# Altium schematic symbol library LED.SCHLIB: 25 symbols
Pins are listed as number, name and electrical type; pins without a type are passive.

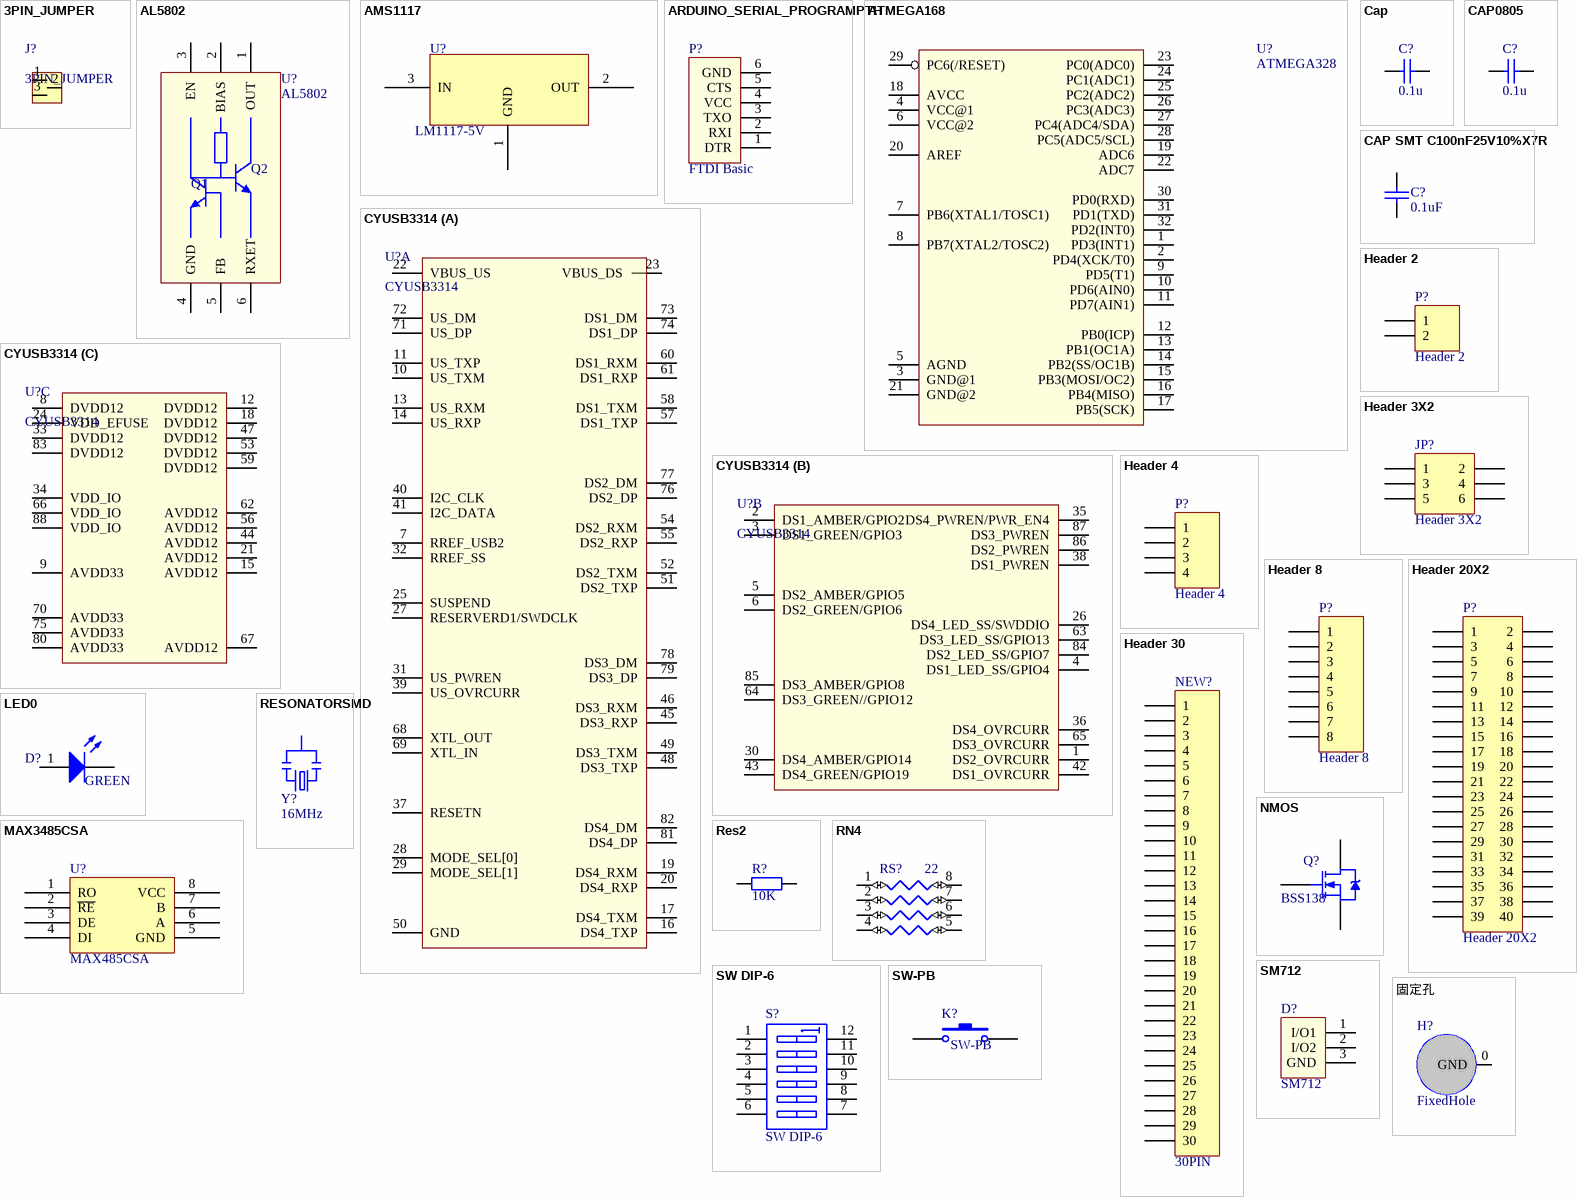
[diagram p0: symbols 3PIN_JUMPER to 固定孔]

## 3PIN_JUMPER
designator J?
pins: 1, 2, 3

## AL5802
designator U?
footprint SOT23-6
footprint SOT26
pins: 1 OUT, 2 BIAS, 3 EN, 4 GND, 5 FB, 6 RXET
text: Q2; Q1

## AMS1117
designator U?, comment LM1117-5V
footprint SOT-223
pins: 1 GND, 2 OUT, 3 IN

## ARDUINO_SERIAL_PROGRAMPTH
designator P?, comment FTDI Basic
footprint 1X06
footprint MHDR1X6 (Connector; Header; 6 Position)
pins: 1 DTR, 2 RXI, 3 TXO, 4 VCC, 5 CTS, 6 GND

## ATMEGA168
designator U?, comment ATMEGA328
footprint TQFP32-08
footprint TQFP32-08
footprint TQFP32-08
pins: 1 PD3(INT1), 2 PD4(XCK/T0), 3 GND@1, 4 VCC@1, 5 AGND, 6 VCC@2, 7 PB6(XTAL1/TOSC1), 8 PB7(XTAL2/TOSC2), 9 PD5(T1), 10 PD6(AIN0), 11 PD7(AIN1), 12 PB0(ICP), 13 PB1(OC1A), 14 PB2(SS/OC1B), 15 PB3(MOSI/OC2), 16 PB4(MISO), 17 PB5(SCK), 18 AVCC, 19 ADC6, 20 AREF, 21 GND@2, 22 ADC7, 23 PC0(ADC0), 24 PC1(ADC1), 25 PC2(ADC2), 26 PC3(ADC3), 27 PC4(ADC4/SDA), 28 PC5(ADC5/SCL), 29 PC6(/RESET), 30 PD0(RXD), 31 PD1(TXD), 32 PD2(INT0)

## Cap
designator C?, comment 0.1u
Capacitor; Value: 100pF; Published: 8-Jun-2000; LatestRevisionDate: 17-Jul-2002; LatestRevisionNote: Re-released for DXP Platform.; PackageReference: RAD-0.3; Publisher: Altium Limited
footprint C0402
footprint C0603
pins: 1, 2

## CAP0805
designator C?, comment 0.1u
Capacitor; Value: 104; Published: 8-Jun-2000; Revision: July-2002: Re-released for DXP Platform.; Publisher: Altium Limited
simulation model CAP (Capacitor)
signal-integrity model Cap
footprint C0603
footprint 0603S-CAP
footprint C0603
pins: 1, 2

## CAP SMT C100nF25V10%X7R
designator C?, comment 0.1uF
Capacitor; iPartNumber: C100nF25V10%X7R; Voltage: 25V; Value: 0.1uF
footprint C0603
footprint C0603T
footprint 0603T_NO_SILK
footprint C0603
pins: 1, 2

## CYUSB3314
designator U?
part A pins: 7 RREF_USB2, 10 US_TXM, 11 US_TXP, 13 US_RXM, 14 US_RXP, 16 DS4_TXP, 17 DS4_TXM, 19 DS4_RXM, 20 DS4_RXP, 22 VBUS_US, 23 VBUS_DS, 25 SUSPEND, 27 RESERVERD1/SWDCLK, 28 MODE_SEL[0], 29 MODE_SEL[1], 31 US_PWREN, 32 RREF_SS, 37 RESETN, 39 US_OVRCURR, 40 I2C_CLK, 41 I2C_DATA, 45 DS3_RXP, 46 DS3_RXM, 48 DS3_TXP, 49 DS3_TXM, 50 GND, 51 DS2_TXP, 52 DS2_TXM, 54 DS2_RXM, 55 DS2_RXP, 57 DS1_TXP, 58 DS1_TXM, 60 DS1_RXM, 61 DS1_RXP, 68 XTL_OUT, 69 XTL_IN, 71 US_DP, 72 US_DM, 73 DS1_DM, 74 DS1_DP, 76 DS2_DP, 77 DS2_DM, 78 DS3_DM, 79 DS3_DP, 81 DS4_DP, 82 DS4_DM
part B pins: 1 DS2_OVRCURR, 2 DS1_AMBER/GPIO2, 3 DS1_GREEN/GPIO3, 4 DS1_LED_SS/GPIO4, 5 DS2_AMBER/GPIO5, 6 DS2_GREEN/GPIO6, 26 DS4_LED_SS/SWDDIO, 30 DS4_AMBER/GPIO14, 35 DS4_PWREN/PWR_EN4, 36 DS4_OVRCURR, 38 DS1_PWREN, 42 DS1_OVRCURR, 43 DS4_GREEN/GPIO19, 63 DS3_LED_SS/GPIO13, 64 DS3_GREEN//GPIO12, 65 DS3_OVRCURR, 84 DS2_LED_SS/GPIO7, 85 DS3_AMBER/GPIO8, 86 DS2_PWREN, 87 DS3_PWREN
part C pins: 8 DVDD12, 9 AVDD33, 12 DVDD12, 15 AVDD12, 18 DVDD12, 21 AVDD12, 24 VDD_EFUSE, 33 DVDD12, 34 VDD_IO, 44 AVDD12, 47 DVDD12, 53 DVDD12, 56 AVDD12, 59 DVDD12, 62 AVDD12, 66 VDD_IO, 67 AVDD12, 70 AVDD33, 75 AVDD33, 80 AVDD33, 83 DVDD12, 88 VDD_IO

## Header 2
designator P?
Header, 2-Pin; LatestRevisionDate: 17-Jul-2002; LatestRevisionNote: Re-released for DXP Platform.; Publisher: Altium Limited
footprint HDR1X2 (Connector; Header; 2 Position)
signal-integrity model Connector
pins: 1, 2

## Header 3X2
designator JP?
Header, 3-Pin, Dual row; LatestRevisionDate: 17-Jul-2002; LatestRevisionNote: Re-released for DXP Platform.; Publisher: Altium Limited
footprint MHDR1X6 (Connector; Header; 6 Position)
signal-integrity model Connector
footprint MHDR1X6 (Connector; Header; 6 Position)
pins: 1, 2, 3, 4, 5, 6

## Header 4
designator P?
Header, 4-Pin; LatestRevisionDate: 17-Jul-2002; LatestRevisionNote: Re-released for DXP Platform.; Publisher: Altium Limited
footprint HDR1X4 (Connector; Header; 4 Position)
signal-integrity model Connector
footprint SMT_1.25MM*4
pins: 1, 2, 3, 4

## Header 8
designator P?
Header, 8-Pin; LatestRevisionDate: 17-Jul-2002; LatestRevisionNote: Re-released for DXP Platform.; Publisher: Altium Limited
footprint HDR1X8 (Connector; Header; 8 Position)
signal-integrity model Connector
footprint SH_1.25MM*8
footprint SH_1.25MM*8
pins: 1, 2, 3, 4, 5, 6, 7, 8

## Header 20X2
designator P?
Header, 20-Pin, Dual row; LatestRevisionDate: 17-Jul-2002; LatestRevisionNote: Re-released for DXP Platform.; Publisher: Altium Limited
footprint HDR2X20 (Connector; Header; 20x2 Position)
signal-integrity model Connector
footprint 1.27mm 2*20
footprint 1.27MM 2*20
pins: 1, 2, 3, 4, 5, 6, 7, 8, 9, 10, 11, 12, 13, 14, 15, 16, 17, 18, 19, 20, 21, 22, 23, 24, 25, 26, 27, 28, 29, 30, 31, 32, 33, 34, 35, 36, 37, 38, 39, 40

## Header 30
designator NEW?, comment 30PIN
Header, 30-Pin; LatestRevisionDate: 17-Jul-2002; LatestRevisionNote: Re-released for DXP Platform.; Publisher: Altium Limited
footprint FH12-30S-0.5SH (Connector; FH12 Series; 20 Position; 0.5mm Spaced Bottom Contact)
pins: 1, 2, 3, 4, 5, 6, 7, 8, 9, 10, 11, 12, 13, 14, 15, 16, 17, 18, 19, 20, 21, 22, 23, 24, 25, 26, 27, 28, 29, 30

## LED0
designator D?, comment GREEN
Typical INFRARED GaAs LED; Published: 8-Jun-2000; LatestRevisionDate: 08-Jul-2005; LatestRevisionNote: Mech Layer 1 removed.; PackageReference: LED-0; Publisher: Altium Limited
simulation model LED0 (Diode)
footprint LED0805
footprint LED0805
footprint LED0603
footprint LED0805
pins: 1 A, 2 K

## MAX3485CSA
designator U?, comment MAX485CSA
footprint MAX3485CSA (Footprint not found)
footprint SOIC-8
pins: 1 RO, 2 ~{RE}, 3 DE, 4 DI, 5 GND, 6 A, 7 B, 8 VCC
2 alternate drawings of the same symbol

## NMOS
designator Q?, comment BSS138
Manufacturer: Fairchild Semiconductor; Manufacturer Part Number: BSS123; FET Type: MOSFET N-Channel, Metal Oxide; FET Feature: Logic Level Gate; Drain to Source Voltage (Vdss): 100V; Current - Continuous Drain (Id) @ 25°C: 170mA (Ta); Rds On (Max) @ Id, Vgs: 6 Ohm @ 170mA, 10V; Vgs(th) (Max) @ Id: 2V @ 1mA; Gate Charge (Qg) @ Vgs: 2.5nC @ 10V; Input Capacitance (Ciss) @ Vds: 73pF @ 25V; Power - Max: 360mW; Supplier 1: Digi-Key; Supplier Part Number 1: BSS123NCT-ND; RoHS: RoHS Compliant; Category: Discrete Semiconductor Products; Stock 1: 163946; Pricing 1: 1=0.24, 10=0.216, 25=0.1556, 100=0.1211, 250=0.07612, 500=0.06484, 1000=0.04418 (USD); Packaging: Cut Tape (CT); Mounting Type: Surface Mount; Package / Case: TO-236-3, SC-59, SOT-23-3; Supplier Device Package: SOT-23; ComponentLink1URL: http://www.fairchildsemi.com/datasheets/BS/BSS123.pdf; ComponentLink1Description: http://www.fairchildsemi.com/datasheets/BS/BSS123.pdf
footprint SOT-23 (Standard)
pins: D, G, S

## Res2
designator R?, comment 10K
Resistor
footprint R0402
footprint R0603
pins: 1, 2

## RESONATORSMD
designator Y?, comment 16MHz
footprint RESONATOR-SMD
footprint RESONATOR-SMD
footprint RESONATOR-SMD
footprint RESONATOR-SMD
pins: 1, 2, 3

## RN4
designator RS?, comment 22
Option 2 - Device: *; Option 2 - Spec: *; Option 3 - Device: *; Option 3 - Spec: *; Option 4 - Device: *; Option 4 - Spec: *; Option 5 - Device: *; Option 5 - Spec: *; Option 6 - Device: *; Option 6 - Spec: *; Option 7 - Device: *; Option 7 - Spec: *; Option 8 - Device: *; Option 8 - Spec: *
footprint NC06-4
pins: 1 (io), 2 (io), 3 (io), 4 (io), 5 (io), 6 (io), 7 (io), 8 (io)

## SM712
designator D?
footprint SOT23-3
pins: 1 I/O1, 2 I/O2, 3 GND

## SW DIP-6
designator S?
DIP Switch, 6 Position, SPST; Published: 24-Mar-1999; LatestRevisionDate: 17-Jul-2002; LatestRevisionNote: Re-released for DXP Platform.; PackageReference: DIP-12/SW; Publisher: Altium Limited
footprint DIP-12/SW (DIP Switch; 12 Leads)
simulation model dpsw6 (Spice Subcircuit)
footprint DIP_SW_6WAY_SMD (DIP Switch; 16 Leads)
pins: 1 A1, 2 A2, 3 A3, 4 A4, 5 A5, 6 A6, 7 B6, 8 B5, 9 B4, 10 B3, 11 B2, 12 B1

## SW-PB
designator K?
Switch; Published: 24-Mar-1999; LatestRevisionDate: 17-Jul-2002; LatestRevisionNote: Re-released for DXP Platform.; PackageReference: SPST-2; Publisher: Altium Limited; PackageDescription: Switch; 2 Leads
footprint HDR1X2 (Connector; Header; 2 Position)
footprint 157SW
footprint 157SW
pins: 1, 2

## 固定孔
designator H?, comment FixedHole
footprint 固定孔
footprint 固定孔_1
pins: 0 GND